# EAGLE library part STM32F4-DISCO-MDB (library MDB_HOMEBAK)
Connect-List generated from STM32F4-DISCOVERY.DEV Variant _UGLY with split-device-symbol.ulp
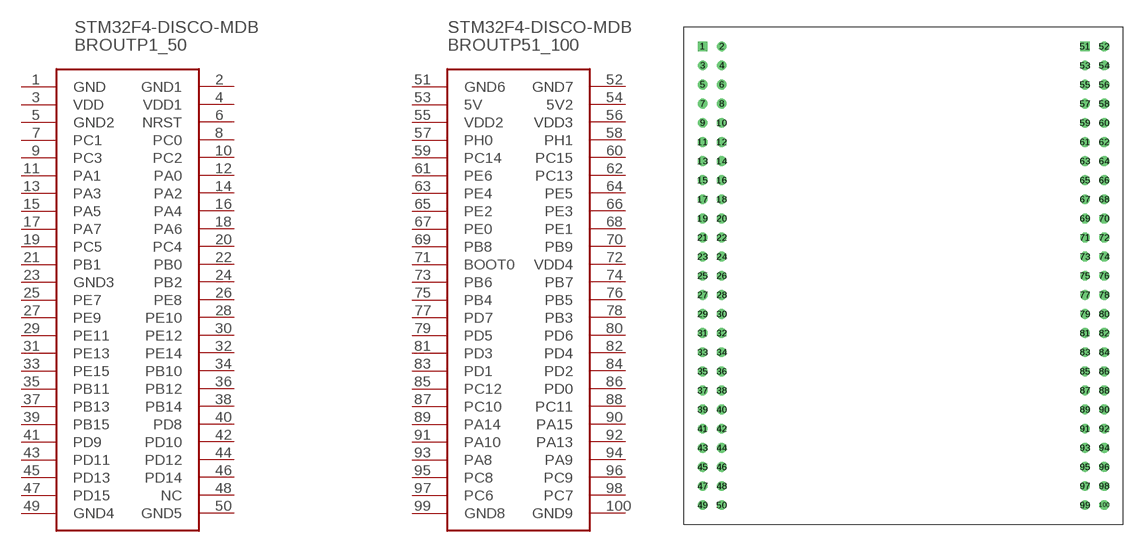
[diagram p30: symbol with the pads of STM32F4-DISCOVERY; footprint STM32F4-DISCOVERY]

Designator prefix BROUT; gates P1_50=STM32F4_DISCO_P50 P51_100=STM32F4_DISCO_P100

## STM32F4-DISCO-MDB_MDB  [STM32F4-DISCOVERY]
1  P1_50:GND
2  P1_50:GND1
3  P1_50:VDD
4  P1_50:VDD1
5  P1_50:GND2
6  P1_50:NRST
7  P1_50:PC1
8  P1_50:PC0
9  P1_50:PC3
10  P1_50:PC2
11  P1_50:PA1
12  P1_50:PA0
13  P1_50:PA3
14  P1_50:PA2
15  P1_50:PA5
16  P1_50:PA4
17  P1_50:PA7
18  P1_50:PA6
19  P1_50:PC5
20  P1_50:PC4
21  P1_50:PB1
22  P1_50:PB0
23  P1_50:GND3
24  P1_50:PB2
25  P1_50:PE7
26  P1_50:PE8
27  P1_50:PE9
28  P1_50:PE10
29  P1_50:PE11
30  P1_50:PE12
31  P1_50:PE13
32  P1_50:PE14
33  P1_50:PE15
34  P1_50:PB10
35  P1_50:PB11
36  P1_50:PB12
37  P1_50:PB13
38  P1_50:PB14
39  P1_50:PB15
40  P1_50:PD8
41  P1_50:PD9
42  P1_50:PD10
43  P1_50:PD11
44  P1_50:PD12
45  P1_50:PD13
46  P1_50:PD14
47  P1_50:PD15
48  P1_50:NC
49  P1_50:GND4
50  P1_50:GND5
51  P51_100:GND6
52  P51_100:GND7
53  P51_100:5V
54  P51_100:5V2
55  P51_100:VDD2
56  P51_100:VDD3
57  P51_100:PH0
58  P51_100:PH1
59  P51_100:PC14
60  P51_100:PC15
61  P51_100:PE6
62  P51_100:PC13
63  P51_100:PE4
64  P51_100:PE5
65  P51_100:PE2
66  P51_100:PE3
67  P51_100:PE0
68  P51_100:PE1
69  P51_100:PB8
70  P51_100:PB9
71  P51_100:BOOT0
72  P51_100:VDD4
73  P51_100:PB6
74  P51_100:PB7
75  P51_100:PB4
76  P51_100:PB5
77  P51_100:PD7
78  P51_100:PB3
79  P51_100:PD5
80  P51_100:PD6
81  P51_100:PD3
82  P51_100:PD4
83  P51_100:PD1
84  P51_100:PD2
85  P51_100:PC12
86  P51_100:PD0
87  P51_100:PC10
88  P51_100:PC11
89  P51_100:PA14
90  P51_100:PA15
91  P51_100:PA10
92  P51_100:PA13
93  P51_100:PA8
94  P51_100:PA9
95  P51_100:PC8
96  P51_100:PC9
97  P51_100:PC6
98  P51_100:PC7
99  P51_100:GND8
100  P51_100:GND9

## Footprint STM32F4-DISCOVERY (pad centres in mm)
drill 0.8 square: 1 -27.94,30.48; 51 22.86,30.48
drill 0.8: 2 -25.4,30.48; 3 -27.94,27.94; 4 -25.4,27.94; 5 -27.94,25.4; 6 -25.4,25.4; 7 -27.94,22.86; 8 -25.4,22.86; 9 -27.94,20.32; 10 -25.4,20.32; 11 -27.94,17.78; 12 -25.4,17.78; 13 -27.94,15.24; 14 -25.4,15.24; 15 -27.94,12.7; 16 -25.4,12.7; 17 -27.94,10.16; 18 -25.4,10.16; 19 -27.94,7.62; 20 -25.4,7.62; 21 -27.94,5.08; 22 -25.4,5.08; 23 -27.94,2.54; 24 -25.4,2.54; 25 -27.94,0; 26 -25.4,0; 27 -27.94,-2.54; 28 -25.4,-2.54; 29 -27.94,-5.08; 30 -25.4,-5.08; 31 -27.94,-7.62; 32 -25.4,-7.62; 33 -27.94,-10.16; 34 -25.4,-10.16; 35 -27.94,-12.7; 36 -25.4,-12.7; 37 -27.94,-15.24; 38 -25.4,-15.24; 39 -27.94,-17.78; 40 -25.4,-17.78; 41 -27.94,-20.32; 42 -25.4,-20.32; 43 -27.94,-22.86; 44 -25.4,-22.86; 45 -27.94,-25.4; 46 -25.4,-25.4; 47 -27.94,-27.94; 48 -25.4,-27.94; 49 -27.94,-30.48; 50 -25.4,-30.48; 52 25.4,30.48; 53 22.86,27.94; 54 25.4,27.94; 55 22.86,25.4; 56 25.4,25.4; 57 22.86,22.86; 58 25.4,22.86; 59 22.86,20.32; 60 25.4,20.32; 61 22.86,17.78; 62 25.4,17.78; 63 22.86,15.24; 64 25.4,15.24; 65 22.86,12.7; 66 25.4,12.7; 67 22.86,10.16; 68 25.4,10.16; 69 22.86,7.62; 70 25.4,7.62; 71 22.86,5.08; 72 25.4,5.08; 73 22.86,2.54; 74 25.4,2.54; 75 22.86,0; 76 25.4,0; 77 22.86,-2.54; 78 25.4,-2.54; 79 22.86,-5.08; 80 25.4,-5.08; 81 22.86,-7.62; 82 25.4,-7.62; 83 22.86,-10.16; 84 25.4,-10.16; 85 22.86,-12.7; 86 25.4,-12.7; 87 22.86,-15.24; 88 25.4,-15.24; 89 22.86,-17.78; 90 25.4,-17.78; 91 22.86,-20.32; 92 25.4,-20.32; 93 22.86,-22.86; 94 25.4,-22.86; 95 22.86,-25.4; 96 25.4,-25.4; 97 22.86,-27.94; 98 25.4,-27.94; 99 22.86,-30.48; 100 25.4,-30.48